# Altium schematic symbol library DAC.SchLib: 4 symbols
Pins are listed as number, name and electrical type; pins without a type are passive.

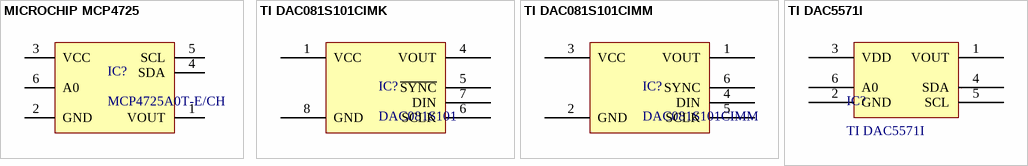
[diagram p0: symbols MICROCHIP MCP4725 to TI DAC5571I]

## MICROCHIP MCP4725
designator IC?, comment MCP4725A0T-E/CH
12-Bit Digital-to-Analog Converter with EEPROM Memory / in SOT-23-6; Manufacturer: Microchip; Description: IC DAC 12BIT W/I2C SOT23A-6; Number of DAC Channels: 1; Interface: 2-Wire,I2C,Serial; Max Supply Voltage: 5.5V; Min Supply Voltage: 2.7V; Resolution: 12b; Settling Time: 6us; Number of Bits: 12; Polarity: Unipolar; Supply Type: Single; Integral Nonlinearity (INL): 14.5LSB; Nominal Supply Current: 210uA; Input Offset Voltage (Vos): 1.1mV; Output Type: Voltage; Supplier 1: Digi-Key; Stock 1: 32942; Pricing 1: 1 = 0,99000, 25 = 0,82400, 100 = 0,75190 (USD); RoHS: Yes; Mount: Surface Mount; Case/Package: SOT-23-6; Number of Pins: 6; Contact Plating: Matte,Tin; Min Operating Temperature: -40°C; Max Operating Temperature: 125°C; Number of Channels: 1; Number of Outputs: 1; Packaging: Tape and Reel; Package Quantity: 3000; Number of Converters: 1; Number of D/A Converters: 1; Termination: SMD/SMT; Length: 3.1mm; Height: 1.3mm; Width: 1.8mm; Radiation Hardening: No; REACH SVHC: No SVHC; Lead Free: Lead Free; ComponentLink1URL: http://www.farnell.com/datasheets/1470577.pdf; ComponentLink1Description: http://www.farnell.com/datasheets/1470577.pdf; ComponentLink2URL: http://www.microchip.com/mymicrochip/filehandler.aspx?ddocname=en532676; ComponentLink2Description: http://www.microchip.com/mymicrochip/filehandler.aspx?ddocname=en532676; ComponentLink3URL: http://ww1.microchip.com/downloads/en/DeviceDoc/22039c.pdf; ComponentLink3Description: http://ww1.microchip.com/downloads/en/DeviceDoc/22039c.pdf; ComponentLink4URL: http://www.mouser.com/ds/2/268/22039c-78124.pdf; ComponentLink4Description: http://www.mouser.com/ds/2/268/22039c-78124.pdf; ComponentLink5URL: https://www.verical.com/server-webapp/html/getDatasheet?partID=780909; ComponentLink5Description: https://www.verical.com/server-webapp/html/getDatasheet?partID=780909; ComponentLink6URL: https://www.distrelec.biz/Web/Downloads/_t/ds/MCP4725_eng_tds.pdf?mime=application%2Fpdf; ComponentLink6Description: https://www.distrelec.biz/Web/Downloads/_t/ds/MCP4725_eng_tds.pdf?mime=application%2Fpdf; Supplier Part Number 1: MCP4725A0T-E/CHCT-ND; Manufacturer Part Number: MCP4725A0T-E/CH
footprint TI SOT-23-6 DBV (SOT23, 6-Leads, Body 2.90x2.80mm, Pitch 0.95mm, IPC Medium Density)
pins: 1 VOUT, 2 GND, 3 VCC, 4 SDA, 5 SCL, 6 A0

## TI DAC081S101CIMK
designator IC?, comment DAC081S101
DAC081S101 8-Bit Micro Power Digital-to-Analog Converter with Rail-to-Rail Output
pins: 1 VCC, 4 VOUT, 5 ~{SYNC}, 6 SCLK, 7 DIN, 8 GND

## TI DAC081S101CIMM
designator IC?, comment DAC081S101CIMM
DAC081S101 8-Bit Micro Power Digital-to-Analog Converter with Rail-to-Rail Output
pins: 1 VOUT, 2 GND, 3 VCC, 4 DIN, 5 SCLK, 6 SYNC

## TI DAC5571I
designator IC?
+2.7 V to +5.5 V, I2C INTERFACE, VOLTAGE OUTPUT,  8-BIT DIGITAL-TO-ANALOG CONVERTER
pins: 1 VOUT, 2 GND, 3 VDD, 4 SDA, 5 SCL, 6 A0